# EAGLE library part IR2011 (library IR2011)
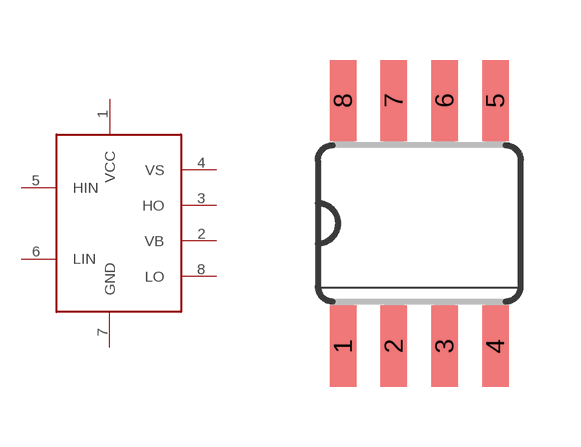
[diagram p0: symbol with the pads of SO08; footprint SO08]

Designator prefix -

## IR2011  [SO08]
1  VCC  sup
2  VB
3  HO  out
4  VS
5  HIN  in
6  LIN  in
7  GND  sup
8  LO  out

## Footprint SO08 (pad centres in mm)
Small Outline package 150 mil
smd 0.66 x 2.032: 1 -1.905,-3.073; 2 -0.635,-3.073; 3 0.635,-3.073; 4 1.905,-3.073; 5 1.905,3.073; 6 0.635,3.073; 7 -0.635,3.073; 8 -1.905,3.073